# Altium footprint library CAPACITORS.PcbLib: 3 footprints
Each footprint in its own frame and in the unit in brackets; x right, y up, seen from the top. Pads: shape width x height; smd on the part's side, far side on the other; paste and mask are expansions set on the pad; w line width, h text height; cw(c..) or ccw(c..) is an arc to the next point about the centre after c.
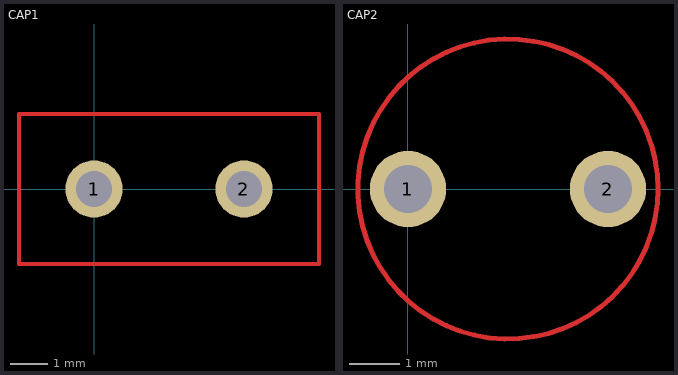
[diagram p0: the footprints below, top view; thin cyan lines are the x and y axes]

## CAP1 [mil]
pads (2):
  round 60 hole 38: 1(0,0) 2(157.48,0)
Top Layer:
  lines w3.94: -78.74,-78.74 236.22,-78.74 236.22,78.74 -78.74,78.74 -78.74,-78.74

## CAP2 [mil]
pads (2):
  round 60 hole 38: 1(0,0) 2(157.48,0)
Top Layer:
  circle w3.94: c78.74,0 r118.11

## PCBComponent_1 [mil]